# EAGLE library part 9155_006_PADS (library avx)
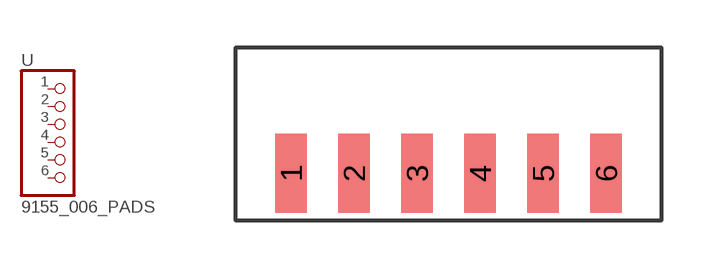
[diagram p0: symbol with the pads of 9155_006_PADS; footprint 9155_006_PADS]

Designator prefix -

## 9155_006_PADS  [9155_006_PADS]
1  1  pas
2  2  pas
3  3  pas
4  4  pas
5  5  pas
6  6  pas

## Footprint 9155_006_PADS (pad centres in mm)
smd 1 x 2.5: 1 -5,-1.25; 2 -3,-1.25; 3 -1,-1.25; 4 1,-1.25; 5 3,-1.25; 6 5,-1.25